# EAGLE library part MLL1200S (library MLL1200S)
TE CONNECTIVITY / ALCOSWITCH - MLL1200S - SLIDE SWITCH, SPDT, 0.3A, 4VDC, SMD Source: Datasheet <https://www.te.com/commerce/DocumentDelivery/DDEController?Action=srchrtrv&DocNm=1437575-1&DocType=Customer Drawing&DocLang=English&DocFormat=pdf&PartCntxt=1437575-1>
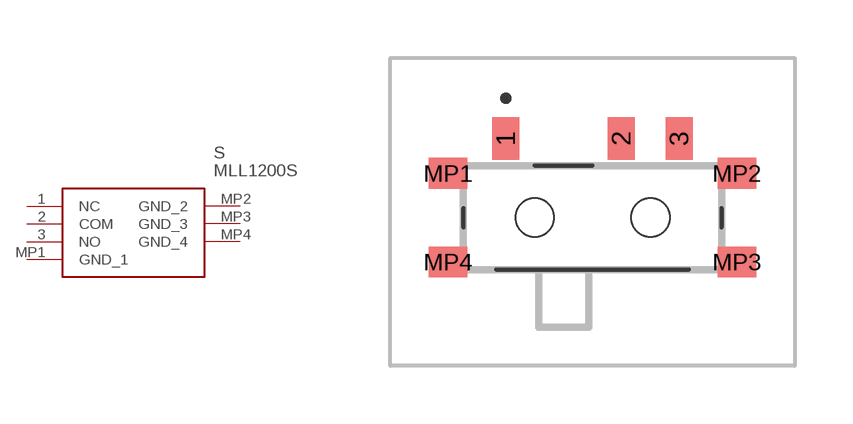
[diagram p0: symbol with the pads of MLL1200S; footprint MLL1200S]

Designator prefix S

## MLL1200S (Arrow_Part_Number: MLL1200S; Arrow_Price-Stock: https://www.arrow.com/en/products/mll1200s/te-connectivity; Description: TE CONNECTIVITY / ALCOSWITCH - MLL1200S - SLIDE SWITCH, SPDT, 0.3A, 4VDC, SMD; Height: 1.75mm; Manufacturer_Name: TE Connectivity; Manufacturer_Part_Number: MLL1200S; Mouser_Part_Number: 506-MLL1200S; Mouser_Price-Stock: https://www.mouser.co.uk/ProductDetail/TE-Connectivity-PB/MLL1200S/?qs=%252BHgkcFtPSlhaU4bDJZHWiQ%3D%3D)  [MLL1200S]
1  NC  nc
2  COM
3  NO
MP1  GND_1
MP2  GND_2
MP3  GND_3
MP4  GND_4

## Footprint MLL1200S (pad centres in mm)
MLL1200S-3
smd 0.7 x 1.1: 1 -2.25,2.05; 2 0.75,2.05; 3 2.25,2.05
smd 1 x 0.8: MP1 -3.75,1.15; MP2 3.75,1.15; MP3 3.75,-1.15; MP4 -3.75,-1.15
hole 1 at -1.5,0
hole 1 at 1.5,0